# Altium integrated library CAP-CSSA_rev15a.intlib: 15 symbols
Pins are listed as number, name and electrical type; pins without a type are passive.

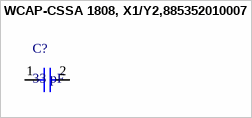
[diagram p0: symbol WCAP-CSSA 1808, X1/Y2,885352010007]

## WCAP-CSSA 1808, X1/Y2,885352010007
designator C?, comment 33 pF
WCAP-CSSA MLCC, NP0, 1808,X1/Y2, 33 pF,250Vac; Manufacturer: Wurth Elektronik; partNo: 885352010007; E-mail: libraries@we-online.com; ComponentLink1Description: Manufacturer; ComponentLink1URL: http://www.we-online.com; ComponentLink2Description: Datasheet; ComponentLink2URL: http://katalog.we-online.de/pbs/datasheet/885352010007.pdf; Created by: Karrer Zheng; Created Date: 3/27/2015; Capacitance: 33 pF
footprint WCAP-CSSA 1808, H=1.4mm
pins: 1, 2


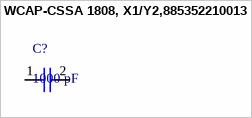
[diagram p1: symbol WCAP-CSSA 1808, X1/Y2,885352210013]

## WCAP-CSSA 1808, X1/Y2,885352210013
designator C?, comment 1000 pF
WCAP-CSSA MLCC, X7R, 1808,X1/Y2, 1000 pF,250Vac; Manufacturer: Wurth Elektronik; partNo: 885352210013; E-mail: libraries@we-online.com; ComponentLink1Description: Manufacturer; ComponentLink1URL: http://www.we-online.com; ComponentLink2Description: Datasheet; ComponentLink2URL: http://katalog.we-online.de/pbs/datasheet/885352210013.pdf; Created by: Karrer Zheng; Created Date: 3/27/2015; Capacitance: 1000 pF
footprint WCAP-CSSA 1808, H=2mm
pins: 1, 2


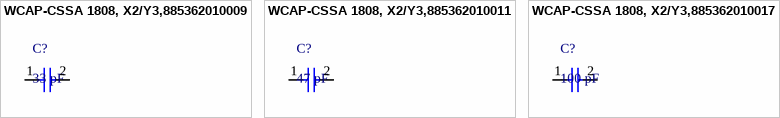
[diagram p2: symbols WCAP-CSSA 1808, X2/Y3,885362010009 to WCAP-CSSA 1808, X2/Y3,885362010017]

## WCAP-CSSA 1808, X2/Y3,885362010009
designator C?, comment 33 pF
WCAP-CSSA MLCC, NP0, 1808,X2/Y3, 33 pF,250Vac; Manufacturer: Wurth Elektronik; partNo: 885362010009; E-mail: libraries@we-online.com; ComponentLink1Description: Manufacturer; ComponentLink1URL: http://www.we-online.com; ComponentLink2Description: Datasheet; ComponentLink2URL: http://katalog.we-online.de/pbs/datasheet/885362010009.pdf; Created by: Karrer Zheng; Created Date: 3/27/2015; Capacitance: 33 pF
footprint WCAP-CSSA 1808, H=1.4mm
pins: 1, 2

## WCAP-CSSA 1808, X2/Y3,885362010011
designator C?, comment 47 pF
WCAP-CSSA MLCC, NP0, 1808,X2/Y3, 47 pF,250Vac; Manufacturer: Wurth Elektronik; partNo: 885362010011; E-mail: libraries@we-online.com; ComponentLink1Description: Manufacturer; ComponentLink1URL: http://www.we-online.com; ComponentLink2Description: Datasheet; ComponentLink2URL: http://katalog.we-online.de/pbs/datasheet/885362010011.pdf; Created by: Karrer Zheng; Created Date: 3/27/2015; Capacitance: 47 pF
footprint WCAP-CSSA 1808, H=1.6mm
pins: 1, 2

## WCAP-CSSA 1808, X2/Y3,885362010017
designator C?, comment 100 pF
WCAP-CSSA MLCC, NP0, 1808,X2/Y3, 100 pF,250Vac; Manufacturer: Wurth Elektronik; partNo: 885362010017; E-mail: libraries@we-online.com; ComponentLink1Description: Manufacturer; ComponentLink1URL: http://www.we-online.com; ComponentLink2Description: Datasheet; ComponentLink2URL: http://katalog.we-online.de/pbs/datasheet/885362010017.pdf; Created by: Karrer Zheng; Created Date: 3/27/2015; Capacitance: 100 pF
footprint WCAP-CSSA 1808, H=2mm
pins: 1, 2


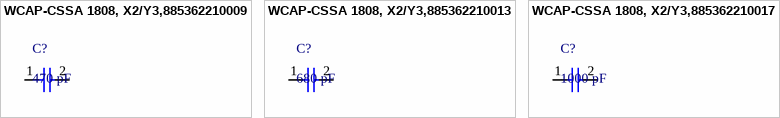
[diagram p3: symbols WCAP-CSSA 1808, X2/Y3,885362210009 to WCAP-CSSA 1808, X2/Y3,885362210017]

## WCAP-CSSA 1808, X2/Y3,885362210009
designator C?, comment 470 pF
WCAP-CSSA MLCC, X7R, 1808,X2/Y3, 470 pF,250Vac; Manufacturer: Wurth Elektronik; partNo: 885362210009; E-mail: libraries@we-online.com; ComponentLink1Description: Manufacturer; ComponentLink1URL: http://www.we-online.com; ComponentLink2Description: Datasheet; ComponentLink2URL: http://katalog.we-online.de/pbs/datasheet/885362210009.pdf; Created by: Karrer Zheng; Created Date: 3/27/2015; Capacitance: 470 pF
footprint WCAP-CSSA 1808, H=1.6mm
pins: 1, 2

## WCAP-CSSA 1808, X2/Y3,885362210013
designator C?, comment 680 pF
WCAP-CSSA MLCC, X7R, 1808,X2/Y3, 680 pF,250Vac; Manufacturer: Wurth Elektronik; partNo: 885362210013; E-mail: libraries@we-online.com; ComponentLink1Description: Manufacturer; ComponentLink1URL: http://www.we-online.com; ComponentLink2Description: Datasheet; ComponentLink2URL: http://katalog.we-online.de/pbs/datasheet/885362210013.pdf; Created by: Karrer Zheng; Created Date: 3/27/2015; Capacitance: 680 pF
footprint WCAP-CSSA 1808, H=1.6mm
pins: 1, 2

## WCAP-CSSA 1808, X2/Y3,885362210017
designator C?, comment 1000 pF
WCAP-CSSA MLCC, X7R, 1808,X2/Y3, 1000 pF,250Vac; Manufacturer: Wurth Elektronik; partNo: 885362210017; E-mail: libraries@we-online.com; ComponentLink1Description: Manufacturer; ComponentLink1URL: http://www.we-online.com; ComponentLink2Description: Datasheet; ComponentLink2URL: http://katalog.we-online.de/pbs/datasheet/885362210017.pdf; Created by: Karrer Zheng; Created Date: 3/27/2015; Capacitance: 1000 pF
footprint WCAP-CSSA 1808, H=2mm
pins: 1, 2


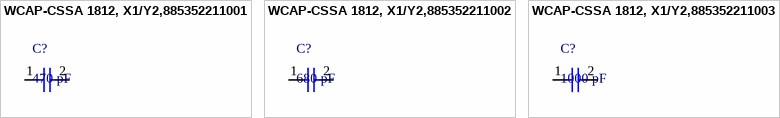
[diagram p4: symbols WCAP-CSSA 1812, X1/Y2,885352211001 to WCAP-CSSA 1812, X1/Y2,885352211003]

## WCAP-CSSA 1812, X1/Y2,885352211001
designator C?, comment 470 pF
WCAP-CSSA MLCC, X7R, 1812,X1/Y2, 470 pF,250Vac; Manufacturer: Wurth Elektronik; partNo: 885352211001; E-mail: libraries@we-online.com; ComponentLink1Description: Manufacturer; ComponentLink1URL: http://www.we-online.com; ComponentLink2Description: Datasheet; ComponentLink2URL: http://katalog.we-online.de/pbs/datasheet/885352211001.pdf; Created by: Karrer Zheng; Created Date: 3/27/2015; Capacitance: 470 pF
footprint WCAP-CSSA 1812, H=1.6mm
pins: 1, 2

## WCAP-CSSA 1812, X1/Y2,885352211002
designator C?, comment 680 pF
WCAP-CSSA MLCC, X7R, 1812,X1/Y2, 680 pF,250Vac; Manufacturer: Wurth Elektronik; partNo: 885352211002; E-mail: libraries@we-online.com; ComponentLink1Description: Manufacturer; ComponentLink1URL: http://www.we-online.com; ComponentLink2Description: Datasheet; ComponentLink2URL: http://katalog.we-online.de/pbs/datasheet/885352211002.pdf; Created by: Karrer Zheng; Created Date: 3/27/2015; Capacitance: 680 pF
footprint WCAP-CSSA 1812, H=2mm
pins: 1, 2

## WCAP-CSSA 1812, X1/Y2,885352211003
designator C?, comment 1000 pF
WCAP-CSSA MLCC, X7R, 1812,X1/Y2, 1000 pF,250Vac; Manufacturer: Wurth Elektronik; partNo: 885352211003; E-mail: libraries@we-online.com; ComponentLink1Description: Manufacturer; ComponentLink1URL: http://www.we-online.com; ComponentLink2Description: Datasheet; ComponentLink2URL: http://katalog.we-online.de/pbs/datasheet/885352211003.pdf; Created by: Karrer Zheng; Created Date: 3/27/2015; Capacitance: 1000 pF
footprint WCAP-CSSA 1812, H=2.5mm
pins: 1, 2


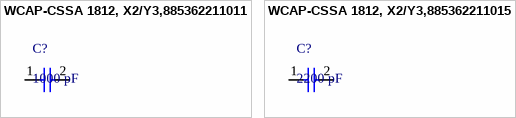
[diagram p5: symbols WCAP-CSSA 1812, X2/Y3,885362211011 to WCAP-CSSA 1812, X2/Y3,885362211015]

## WCAP-CSSA 1812, X2/Y3,885362211011
designator C?, comment 1000 pF
WCAP-CSSA MLCC, X7R, 1812,X2/Y3, 1000 pF,250Vac; Manufacturer: Wurth Elektronik; partNo: 885362211011; E-mail: libraries@we-online.com; ComponentLink1Description: Manufacturer; ComponentLink1URL: http://www.we-online.com; ComponentLink2Description: Datasheet; ComponentLink2URL: http://katalog.we-online.de/pbs/datasheet/885362211011.pdf; Created by: Karrer Zheng; Created Date: 3/27/2015; Capacitance: 1000 pF
footprint WCAP-CSSA 1812, H=1.6mm
pins: 1, 2

## WCAP-CSSA 1812, X2/Y3,885362211015
designator C?, comment 2200 pF
WCAP-CSSA MLCC, X7R, 1812,X2/Y3, 2200 pF,250Vac; Manufacturer: Wurth Elektronik; partNo: 885362211015; E-mail: libraries@we-online.com; ComponentLink1Description: Manufacturer; ComponentLink1URL: http://www.we-online.com; ComponentLink2Description: Datasheet; ComponentLink2URL: http://katalog.we-online.de/pbs/datasheet/885362211015.pdf; Created by: Karrer Zheng; Created Date: 3/27/2015; Capacitance: 2200 pF
footprint WCAP-CSSA 1812, H=2.5mm
pins: 1, 2


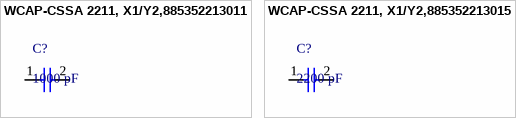
[diagram p6: symbols WCAP-CSSA 2211, X1/Y2,885352213011 to WCAP-CSSA 2211, X1/Y2,885352213015]

## WCAP-CSSA 2211, X1/Y2,885352213011
designator C?, comment 1000 pF
WCAP-CSSA MLCC, X7R, 2211,X1/Y2, 1000 pF,250Vac; Manufacturer: Wurth Elektronik; partNo: 885352213011; E-mail: libraries@we-online.com; ComponentLink1Description: Manufacturer; ComponentLink1URL: http://www.we-online.com; ComponentLink2Description: Datasheet; ComponentLink2URL: http://katalog.we-online.de/pbs/datasheet/885352213011.pdf; Created by: Karrer Zheng; Created Date: 3/27/2015; Capacitance: 1000 pF
footprint WCAP-CSSA 2211, H=2.5mm
pins: 1, 2

## WCAP-CSSA 2211, X1/Y2,885352213015
designator C?, comment 2200 pF
WCAP-CSSA MLCC, X7R, 2211,X1/Y2, 2200 pF,250Vac; Manufacturer: Wurth Elektronik; partNo: 885352213015; E-mail: libraries@we-online.com; ComponentLink1Description: Manufacturer; ComponentLink1URL: http://www.we-online.com; ComponentLink2Description: Datasheet; ComponentLink2URL: http://katalog.we-online.de/pbs/datasheet/885352213015.pdf; Created by: Karrer Zheng; Created Date: 3/27/2015; Capacitance: 2200 pF
footprint WCAP-CSSA 2211, H=2.5mm
pins: 1, 2